# Altium schematic symbol library mod_pwr.SchLib: 1 symbol
Pins are listed as number, name and electrical type; pins without a type are passive.

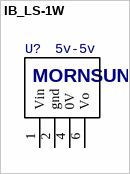
[diagram p0: symbol IB_LS-1W]

## IB_LS-1W
designator U?, comment 5v-5v  Type: MORNSUN
MORNSUN Isolated 5V-5V DCDC
footprint MORNSUN IB_LD-1W
pins: 1 Vin, 2 gnd, 4 0V, 6 Vo